# Altium integrated library ALTIUM-SMSI_SMT_STEEL_SPACER_M3_THREAD_INTERNAL-rev19a.IntLib: 149 symbols (part 2 of 2)
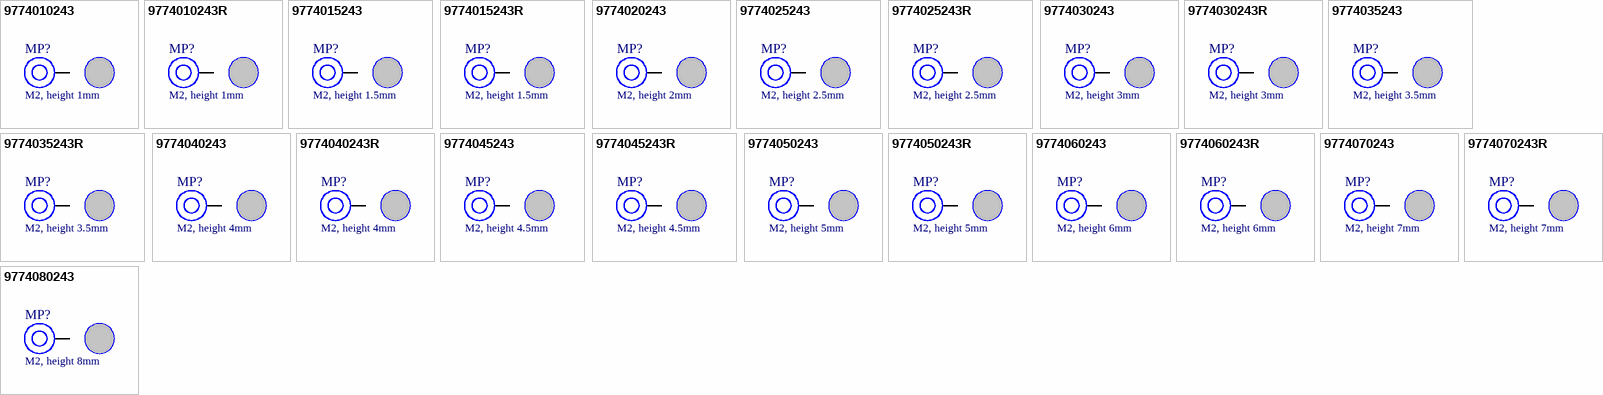
[diagram p6: symbols 9774010243 to 9774080243]

## 9774015243
designator MP?, comment M2, height 1.5mm
SMT Steel Spacer with internal Thread M2 WA-SMSI, height 1.5mm; Part Number: 9774015243; Tightening Torque: 0.2 Nm; Solder Cream Thickness: 150 um; Surface: Tin; ComponentLink1Description: Manufacturer; ComponentLink1URL: http://www.we-online.de; ComponentLink2Description: Datasheet; ComponentLink2URL: https://katalog.we-online.de/em/datasheet/9774015243.pdf; Published Date: November 2018; Publisher: Wurth Elektronik; Operating Temperature: -55 to 150 degC; Packaging: Bulk; Material: Steel; Mounting Technology: SMT; Height: 1.5 mm; Thread: M2
footprint 9774015243
pins: 1

## 9774015243R
designator MP?, comment M2, height 1.5mm
SMT Steel Spacer with internal Thread M2 WA-SMSI, height 1.5mm; Part Number: 9774015243R; Tightening Torque: 0.2 Nm; Solder Cream Thickness: 150 um; Surface: Tin; ComponentLink1Description: Manufacturer; ComponentLink1URL: http://www.we-online.de; ComponentLink2Description: Datasheet; ComponentLink2URL: https://katalog.we-online.de/em/datasheet/9774015243R.pdf; Published Date: November 2018; Publisher: Wurth Elektronik; Operating Temperature: -55 to 150 degC; Packaging: Tape and Reel; Material: Steel; Mounting Technology: SMT; Height: 1.5 mm; Thread: M2
footprint 9774015243
pins: 1

## 9774020243
designator MP?, comment M2, height 2mm
SMT Steel Spacer with internal Thread M2 WA-SMSI, height 2mm; Part Number: 9774020243; Tightening Torque: 0.2 Nm; Solder Cream Thickness: 150 um; Surface: Tin; ComponentLink1Description: Manufacturer; ComponentLink1URL: http://www.we-online.de; ComponentLink2Description: Datasheet; ComponentLink2URL: https://katalog.we-online.de/em/datasheet/9774020243.pdf; Published Date: November 2018; Publisher: Wurth Elektronik; Operating Temperature: -55 to 150 degC; Packaging: Bulk; Material: Steel; Mounting Technology: SMT; Height: 2 mm; Thread: M2
footprint 9774020243
pins: 1

## 9774025243
designator MP?, comment M2, height 2.5mm
SMT Steel Spacer with internal Thread M2 WA-SMSI, height 2.5mm; Part Number: 9774025243; Tightening Torque: 0.2 Nm; Solder Cream Thickness: 150 um; Surface: Tin; ComponentLink1Description: Manufacturer; ComponentLink1URL: http://www.we-online.de; ComponentLink2Description: Datasheet; ComponentLink2URL: https://katalog.we-online.de/em/datasheet/9774025243.pdf; Published Date: November 2018; Publisher: Wurth Elektronik; Operating Temperature: -55 to 150 degC; Packaging: Bulk; Material: Steel; Mounting Technology: SMT; Height: 2.5 mm; Thread: M2
footprint 9774025243
pins: 1

## 9774025243R
designator MP?, comment M2, height 2.5mm
SMT Steel Spacer with internal Thread M2 WA-SMSI, height 2.5mm; Part Number: 9774025243R; Tightening Torque: 0.2 Nm; Solder Cream Thickness: 150 um; Surface: Tin; ComponentLink1Description: Manufacturer; ComponentLink1URL: http://www.we-online.de; ComponentLink2Description: Datasheet; ComponentLink2URL: https://katalog.we-online.de/em/datasheet/9774025243R.pdf; Published Date: November 2018; Publisher: Wurth Elektronik; Operating Temperature: -55 to 150 degC; Packaging: Tape and Reel; Material: Steel; Mounting Technology: SMT; Height: 2.5 mm; Thread: M2
footprint 9774025243
pins: 1

## 9774030243
designator MP?, comment M2, height 3mm
SMT Steel Spacer with internal Thread M2 WA-SMSI, height 3mm; Part Number: 9774030243; Tightening Torque: 0.2 Nm; Solder Cream Thickness: 150 um; Surface: Tin; ComponentLink1Description: Manufacturer; ComponentLink1URL: http://www.we-online.de; ComponentLink2Description: Datasheet; ComponentLink2URL: https://katalog.we-online.de/em/datasheet/9774030243.pdf; Published Date: November 2018; Publisher: Wurth Elektronik; Operating Temperature: -55 to 150 degC; Packaging: Bulk; Material: Steel; Mounting Technology: SMT; Height: 3 mm; Thread: M2
footprint 9774030243
pins: 1

## 9774030243R
designator MP?, comment M2, height 3mm
SMT Steel Spacer with internal Thread M2 WA-SMSI, height 3mm; Part Number: 9774030243R; Tightening Torque: 0.2 Nm; Solder Cream Thickness: 150 um; Surface: Tin; ComponentLink1Description: Manufacturer; ComponentLink1URL: http://www.we-online.de; ComponentLink2Description: Datasheet; ComponentLink2URL: https://katalog.we-online.de/em/datasheet/9774030243R.pdf; Published Date: November 2018; Publisher: Wurth Elektronik; Operating Temperature: -55 to 150 degC; Packaging: Tape and Reel; Material: Steel; Mounting Technology: SMT; Height: 3 mm; Thread: M2
footprint 9774030243
pins: 1

## 9774035243
designator MP?, comment M2, height 3.5mm
SMT Steel Spacer with internal Thread M2 WA-SMSI, height 3.5mm; Part Number: 9774035243; Tightening Torque: 0.2 Nm; Solder Cream Thickness: 150 um; Surface: Tin; ComponentLink1Description: Manufacturer; ComponentLink1URL: http://www.we-online.de; ComponentLink2Description: Datasheet; ComponentLink2URL: https://katalog.we-online.de/em/datasheet/9774035243.pdf; Published Date: November 2018; Publisher: Wurth Elektronik; Operating Temperature: -55 to 150 degC; Packaging: Bulk; Material: Steel; Mounting Technology: SMT; Height: 3.5 mm; Thread: M2
footprint 9774035243
pins: 1

## 9774035243R
designator MP?, comment M2, height 3.5mm
SMT Steel Spacer with internal Thread M2 WA-SMSI, height 3.5mm; Part Number: 9774035243R; Tightening Torque: 0.2 Nm; Solder Cream Thickness: 150 um; Surface: Tin; ComponentLink1Description: Manufacturer; ComponentLink1URL: http://www.we-online.de; ComponentLink2Description: Datasheet; ComponentLink2URL: https://katalog.we-online.de/em/datasheet/9774035243R.pdf; Published Date: November 2018; Publisher: Wurth Elektronik; Operating Temperature: -55 to 150 degC; Packaging: Tape and Reel; Material: Steel; Mounting Technology: SMT; Height: 3.5 mm; Thread: M2
footprint 9774035243
pins: 1

## 9774040243
designator MP?, comment M2, height 4mm
SMT Steel Spacer with internal Thread M2 WA-SMSI, height 4mm; Part Number: 9774040243; Tightening Torque: 0.2 Nm; Solder Cream Thickness: 150 um; Surface: Tin; ComponentLink1Description: Manufacturer; ComponentLink1URL: http://www.we-online.de; ComponentLink2Description: Datasheet; ComponentLink2URL: https://katalog.we-online.de/em/datasheet/9774040243.pdf; Published Date: November 2018; Publisher: Wurth Elektronik; Operating Temperature: -55 to 150 degC; Packaging: Bulk; Material: Steel; Mounting Technology: SMT; Height: 4 mm; Thread: M2
footprint 9774040243
pins: 1

## 9774040243R
designator MP?, comment M2, height 4mm
SMT Steel Spacer with internal Thread M2 WA-SMSI, height 4mm; Part Number: 9774040243R; Tightening Torque: 0.2 Nm; Solder Cream Thickness: 150 um; Surface: Tin; ComponentLink1Description: Manufacturer; ComponentLink1URL: http://www.we-online.de; ComponentLink2Description: Datasheet; ComponentLink2URL: https://katalog.we-online.de/em/datasheet/9774040243R.pdf; Published Date: November 2018; Publisher: Wurth Elektronik; Operating Temperature: -55 to 150 degC; Packaging: Tape and Reel; Material: Steel; Mounting Technology: SMT; Height: 4 mm; Thread: M2
footprint 9774040243
pins: 1

## 9774045243
designator MP?, comment M2, height 4.5mm
SMT Steel Spacer with internal Thread M2 WA-SMSI, height 4.5mm; Part Number: 9774045243; Tightening Torque: 0.2 Nm; Solder Cream Thickness: 150 um; Surface: Tin; ComponentLink1Description: Manufacturer; ComponentLink1URL: http://www.we-online.de; ComponentLink2Description: Datasheet; ComponentLink2URL: https://katalog.we-online.de/em/datasheet/9774045243.pdf; Published Date: November 2018; Publisher: Wurth Elektronik; Operating Temperature: -55 to 150 degC; Packaging: Bulk; Material: Steel; Mounting Technology: SMT; Height: 4.5 mm; Thread: M2
footprint 9774045243
pins: 1

## 9774045243R
designator MP?, comment M2, height 4.5mm
SMT Steel Spacer with internal Thread M2 WA-SMSI, height 4.5mm; Part Number: 9774045243R; Tightening Torque: 0.2 Nm; Solder Cream Thickness: 150 um; Surface: Tin; ComponentLink1Description: Manufacturer; ComponentLink1URL: http://www.we-online.de; ComponentLink2Description: Datasheet; ComponentLink2URL: https://katalog.we-online.de/em/datasheet/9774045243R.pdf; Published Date: November 2018; Publisher: Wurth Elektronik; Operating Temperature: -55 to 150 degC; Packaging: Tape and Reel; Material: Steel; Mounting Technology: SMT; Height: 4.5 mm; Thread: M2
footprint 9774045243
pins: 1

## 9774050243
designator MP?, comment M2, height 5mm
SMT Steel Spacer with internal Thread M2 WA-SMSI, height 5mm; Part Number: 9774050243; Tightening Torque: 0.2 Nm; Solder Cream Thickness: 150 um; Surface: Tin; ComponentLink1Description: Manufacturer; ComponentLink1URL: http://www.we-online.de; ComponentLink2Description: Datasheet; ComponentLink2URL: https://katalog.we-online.de/em/datasheet/9774050243.pdf; Published Date: November 2018; Publisher: Wurth Elektronik; Operating Temperature: -55 to 150 degC; Packaging: Bulk; Material: Steel; Mounting Technology: SMT; Height: 5 mm; Thread: M2
footprint 9774050243
pins: 1

## 9774050243R
designator MP?, comment M2, height 5mm
SMT Steel Spacer with internal Thread M2 WA-SMSI, height 5mm; Part Number: 9774050243R; Tightening Torque: 0.2 Nm; Solder Cream Thickness: 150 um; Surface: Tin; ComponentLink1Description: Manufacturer; ComponentLink1URL: http://www.we-online.de; ComponentLink2Description: Datasheet; ComponentLink2URL: https://katalog.we-online.de/em/datasheet/9774050243R.pdf; Published Date: November 2018; Publisher: Wurth Elektronik; Operating Temperature: -55 to 150 degC; Packaging: Tape and Reel; Material: Steel; Mounting Technology: SMT; Height: 5 mm; Thread: M2
footprint 9774050243
pins: 1

## 9774060243
designator MP?, comment M2, height 6mm
SMT Steel Spacer with internal Thread M2 WA-SMSI, height 6mm; Part Number: 9774060243; Tightening Torque: 0.2 Nm; Solder Cream Thickness: 150 um; Surface: Tin; ComponentLink1Description: Manufacturer; ComponentLink1URL: http://www.we-online.de; ComponentLink2Description: Datasheet; ComponentLink2URL: https://katalog.we-online.de/em/datasheet/9774060243.pdf; Published Date: November 2018; Publisher: Wurth Elektronik; Operating Temperature: -55 to 150 degC; Packaging: Bulk; Material: Steel; Mounting Technology: SMT; Height: 6 mm; Thread: M2
footprint 9774060243
pins: 1

## 9774060243R
designator MP?, comment M2, height 6mm
SMT Steel Spacer with internal Thread M2 WA-SMSI, height 6mm; Part Number: 9774060243R; Tightening Torque: 0.2 Nm; Solder Cream Thickness: 150 um; Surface: Tin; ComponentLink1Description: Manufacturer; ComponentLink1URL: http://www.we-online.de; ComponentLink2Description: Datasheet; ComponentLink2URL: https://katalog.we-online.de/em/datasheet/9774060243R.pdf; Published Date: November 2018; Publisher: Wurth Elektronik; Operating Temperature: -55 to 150 degC; Packaging: Tape and Reel; Material: Steel; Mounting Technology: SMT; Height: 6 mm; Thread: M2
footprint 9774060243
pins: 1

## 9774070243
designator MP?, comment M2, height 7mm
SMT Steel Spacer with internal Thread M2 WA-SMSI, height 7mm; Part Number: 9774070243; Tightening Torque: 0.2 Nm; Solder Cream Thickness: 150 um; Surface: Tin; ComponentLink1Description: Manufacturer; ComponentLink1URL: http://www.we-online.de; ComponentLink2Description: Datasheet; ComponentLink2URL: https://katalog.we-online.de/em/datasheet/9774070243.pdf; Published Date: November 2018; Publisher: Wurth Elektronik; Operating Temperature: -55 to 150 degC; Packaging: Bulk; Material: Steel; Mounting Technology: SMT; Height: 7 mm; Thread: M2
footprint 9774070243
pins: 1

## 9774070243R
designator MP?, comment M2, height 7mm
SMT Steel Spacer with internal Thread M2 WA-SMSI, height 7mm; Part Number: 9774070243R; Tightening Torque: 0.2 Nm; Solder Cream Thickness: 150 um; Surface: Tin; ComponentLink1Description: Manufacturer; ComponentLink1URL: http://www.we-online.de; ComponentLink2Description: Datasheet; ComponentLink2URL: https://katalog.we-online.de/em/datasheet/9774070243R.pdf; Published Date: November 2018; Publisher: Wurth Elektronik; Operating Temperature: -55 to 150 degC; Packaging: Tape and Reel; Material: Steel; Mounting Technology: SMT; Height: 7 mm; Thread: M2
footprint 9774070243
pins: 1

## 9774080243
designator MP?, comment M2, height 8mm
SMT Steel Spacer with internal Thread M2 WA-SMSI, height 8mm; Part Number: 9774080243; Tightening Torque: 0.2 Nm; Solder Cream Thickness: 150 um; Surface: Tin; ComponentLink1Description: Manufacturer; ComponentLink1URL: http://www.we-online.de; ComponentLink2Description: Datasheet; ComponentLink2URL: https://katalog.we-online.de/em/datasheet/9774080243.pdf; Published Date: November 2018; Publisher: Wurth Elektronik; Operating Temperature: -55 to 150 degC; Packaging: Bulk; Material: Steel; Mounting Technology: SMT; Height: 8 mm; Thread: M2
footprint 9774080243
pins: 1


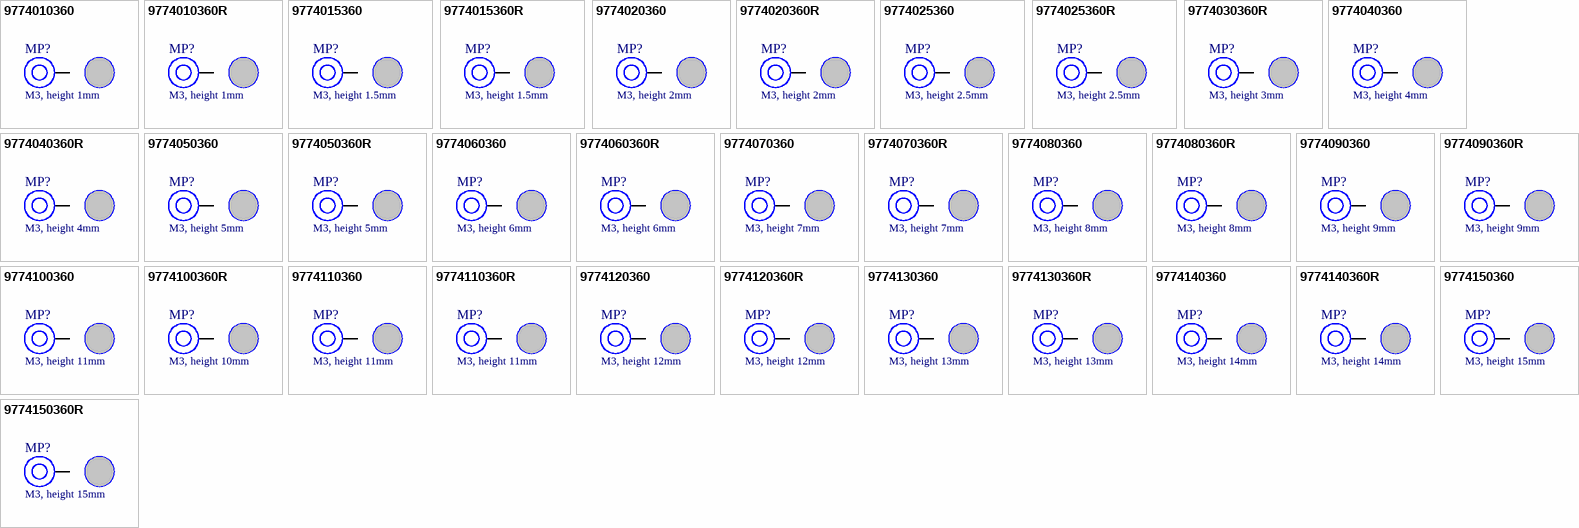
[diagram p4: symbols 9774010360 to 9774150360R]

## 9774010360
designator MP?, comment M3, height 1mm
SMT Steel Spacer with internal Thread M3 WA-SMSI, height 1mm; Part Number: 9774010360; Tightening Torque: 0.5 Nm; Solder Cream Thickness: 150 um; Surface: Tin; ComponentLink1Description: Manufacturer; ComponentLink1URL: http://www.we-online.de; ComponentLink2Description: Datasheet; ComponentLink2URL: https://katalog.we-online.de/em/datasheet/9774010360.pdf; Published Date: November 2018; Publisher: Wurth Elektronik; Operating Temperature: -55 to 150 degC; Packaging: Bulk; Material: Steel; Mounting Technology: SMT; Height: 1 mm; Thread: M3
footprint 9774010360
pins: 1

## 9774010360R
designator MP?, comment M3, height 1mm
SMT Steel Spacer with internal Thread M3 WA-SMSI, height 1mm; Part Number: 9774010360R; Tightening Torque: 0.5 Nm; Solder Cream Thickness: 150 um; Surface: Tin; ComponentLink1Description: Manufacturer; ComponentLink1URL: http://www.we-online.de; ComponentLink2Description: Datasheet; ComponentLink2URL: https://katalog.we-online.de/em/datasheet/9774010360R.pdf; Published Date: November 2018; Publisher: Wurth Elektronik; Operating Temperature: -55 to 150 degC; Packaging: Tape and Reel; Material: Steel; Mounting Technology: SMT; Height: 1 mm; Thread: M3
footprint 9774010360
pins: 1

## 9774015360
designator MP?, comment M3, height 1.5mm
SMT Steel Spacer with internal Thread M3 WA-SMSI, height 1.5mm; Part Number: 9774015360; Tightening Torque: 0.5 Nm; Solder Cream Thickness: 150 um; Surface: Tin; ComponentLink1Description: Manufacturer; ComponentLink1URL: http://www.we-online.de; ComponentLink2Description: Datasheet; ComponentLink2URL: https://katalog.we-online.de/em/datasheet/9774015360.pdf; Published Date: November 2018; Publisher: Wurth Elektronik; Operating Temperature: -55 to 150 degC; Packaging: Bulk; Material: Steel; Mounting Technology: SMT; Height: 1.5 mm; Thread: M3
footprint 9774015360
pins: 1

## 9774015360R
designator MP?, comment M3, height 1.5mm
SMT Steel Spacer with internal Thread M3 WA-SMSI, height 1.5mm; Part Number: 9774015360R; Tightening Torque: 0.5 Nm; Solder Cream Thickness: 150 um; Surface: Tin; ComponentLink1Description: Manufacturer; ComponentLink1URL: http://www.we-online.de; ComponentLink2Description: Datasheet; ComponentLink2URL: https://katalog.we-online.de/em/datasheet/9774015360R.pdf; Published Date: November 2018; Publisher: Wurth Elektronik; Operating Temperature: -55 to 150 degC; Packaging: Tape and Reel; Material: Steel; Mounting Technology: SMT; Height: 1.5 mm; Thread: M3
footprint 9774015360
pins: 1

## 9774020360
designator MP?, comment M3, height 2mm
SMT Steel Spacer with internal Thread M3 WA-SMSI, height 2mm; Part Number: 9774020360; Tightening Torque: 0.5 Nm; Solder Cream Thickness: 150 um; Surface: Tin; ComponentLink1Description: Manufacturer; ComponentLink1URL: http://www.we-online.de; ComponentLink2Description: Datasheet; ComponentLink2URL: https://katalog.we-online.de/em/datasheet/9774020360.pdf; Published Date: November 2018; Publisher: Wurth Elektronik; Operating Temperature: -55 to 150 degC; Packaging: Bulk; Material: Steel; Mounting Technology: SMT; Height: 2 mm; Thread: M3
footprint 9774020360
pins: 1

## 9774020360R
designator MP?, comment M3, height 2mm
SMT Steel Spacer with internal Thread M3 WA-SMSI, height 2mm; Part Number: 9774020360R; Tightening Torque: 0.5 Nm; Solder Cream Thickness: 150 um; Surface: Tin; ComponentLink1Description: Manufacturer; ComponentLink1URL: http://www.we-online.de; ComponentLink2Description: Datasheet; ComponentLink2URL: https://katalog.we-online.de/em/datasheet/9774020360R.pdf; Published Date: November 2018; Publisher: Wurth Elektronik; Operating Temperature: -55 to 150 degC; Packaging: Tape and Reel; Material: Steel; Mounting Technology: SMT; Height: 2 mm; Thread: M3
footprint 9774020360
pins: 1

## 9774025360
designator MP?, comment M3, height 2.5mm
SMT Steel Spacer with internal Thread M3 WA-SMSI, height 2.5mm; Part Number: 9774025360; Tightening Torque: 0.5 Nm; Solder Cream Thickness: 150 um; Surface: Tin; ComponentLink1Description: Manufacturer; ComponentLink1URL: http://www.we-online.de; ComponentLink2Description: Datasheet; ComponentLink2URL: https://katalog.we-online.de/em/datasheet/9774025360.pdf; Published Date: November 2018; Publisher: Wurth Elektronik; Operating Temperature: -55 to 150 degC; Packaging: Bulk; Material: Steel; Mounting Technology: SMT; Height: 2.5 mm; Thread: M3
footprint 9774025360
pins: 1

## 9774025360R
designator MP?, comment M3, height 2.5mm
SMT Steel Spacer with internal Thread M3 WA-SMSI, height 2.5mm; Part Number: 9774025360R; Tightening Torque: 0.5 Nm; Solder Cream Thickness: 150 um; Surface: Tin; ComponentLink1Description: Manufacturer; ComponentLink1URL: http://www.we-online.de; ComponentLink2Description: Datasheet; ComponentLink2URL: https://katalog.we-online.de/em/datasheet/9774025360R.pdf; Published Date: November 2018; Publisher: Wurth Elektronik; Operating Temperature: -55 to 150 degC; Packaging: Tape and Reel; Material: Steel; Mounting Technology: SMT; Height: 2.5 mm; Thread: M3
footprint 9774025360
pins: 1

## 9774030360R
designator MP?, comment M3, height 3mm
SMT Steel Spacer with internal Thread M3 WA-SMSI, height 3mm; Part Number: 9774030360R; Tightening Torque: 0.5 Nm; Solder Cream Thickness: 150 um; Surface: Tin; ComponentLink1Description: Manufacturer; ComponentLink1URL: http://www.we-online.de; ComponentLink2Description: Datasheet; ComponentLink2URL: https://katalog.we-online.de/em/datasheet/9774030360R.pdf; Published Date: November 2018; Publisher: Wurth Elektronik; Operating Temperature: -55 to 150 degC; Packaging: Tape and Reel; Material: Steel; Mounting Technology: SMT; Height: 3 mm; Thread: M3
footprint 9774030360
pins: 1

## 9774040360
designator MP?, comment M3, height 4mm
SMT Steel Spacer with internal Thread M3 WA-SMSI, height 4mm; Part Number: 9774040360; Tightening Torque: 0.5 Nm; Solder Cream Thickness: 150 um; Surface: Tin; ComponentLink1Description: Manufacturer; ComponentLink1URL: http://www.we-online.de; ComponentLink2Description: Datasheet; ComponentLink2URL: https://katalog.we-online.de/em/datasheet/9774040360.pdf; Published Date: November 2018; Publisher: Wurth Elektronik; Operating Temperature: -55 to 150 degC; Packaging: Bulk; Material: Steel; Mounting Technology: SMT; Height: 4 mm; Thread: M3
footprint 9774040360
pins: 1

## 9774040360R
designator MP?, comment M3, height 4mm
SMT Steel Spacer with internal Thread M3 WA-SMSI, height 4mm; Part Number: 9774040360R; Tightening Torque: 0.5 Nm; Solder Cream Thickness: 150 um; Surface: Tin; ComponentLink1Description: Manufacturer; ComponentLink1URL: http://www.we-online.de; ComponentLink2Description: Datasheet; ComponentLink2URL: https://katalog.we-online.de/em/datasheet/9774040360R.pdf; Published Date: November 2018; Publisher: Wurth Elektronik; Operating Temperature: -55 to 150 degC; Packaging: Tape and Reel; Material: Steel; Mounting Technology: SMT; Height: 4 mm; Thread: M3
footprint 9774040360
pins: 1

## 9774050360
designator MP?, comment M3, height 5mm
SMT Steel Spacer with internal Thread M3 WA-SMSI, height 5mm; Part Number: 9774050360; Tightening Torque: 0.5 Nm; Solder Cream Thickness: 150 um; Surface: Tin; ComponentLink1Description: Manufacturer; ComponentLink1URL: http://www.we-online.de; ComponentLink2Description: Datasheet; ComponentLink2URL: https://katalog.we-online.de/em/datasheet/9774050360.pdf; Published Date: November 2018; Publisher: Wurth Elektronik; Operating Temperature: -55 to 150 degC; Packaging: Bulk; Material: Steel; Mounting Technology: SMT; Height: 5 mm; Thread: M3
footprint 9774050360
pins: 1

## 9774050360R
designator MP?, comment M3, height 5mm
SMT Steel Spacer with internal Thread M3 WA-SMSI, height 5mm; Part Number: 9774050360R; Tightening Torque: 0.5 Nm; Solder Cream Thickness: 150 um; Surface: Tin; ComponentLink1Description: Manufacturer; ComponentLink1URL: http://www.we-online.de; ComponentLink2Description: Datasheet; ComponentLink2URL: https://katalog.we-online.de/em/datasheet/9774050360R.pdf; Published Date: November 2018; Publisher: Wurth Elektronik; Operating Temperature: -55 to 150 degC; Packaging: Tape and Reel; Material: Steel; Mounting Technology: SMT; Height: 5 mm; Thread: M3
footprint 9774050360
pins: 1

## 9774060360
designator MP?, comment M3, height 6mm
SMT Steel Spacer with internal Thread M3 WA-SMSI, height 6mm; Part Number: 9774060360; Tightening Torque: 0.5 Nm; Solder Cream Thickness: 150 um; Surface: Tin; ComponentLink1Description: Manufacturer; ComponentLink1URL: http://www.we-online.de; ComponentLink2Description: Datasheet; ComponentLink2URL: https://katalog.we-online.de/em/datasheet/9774060360.pdf; Published Date: November 2018; Publisher: Wurth Elektronik; Operating Temperature: -55 to 150 degC; Packaging: Bulk; Material: Steel; Mounting Technology: SMT; Height: 6 mm; Thread: M3
footprint 9774060360
pins: 1

## 9774060360R
designator MP?, comment M3, height 6mm
SMT Steel Spacer with internal Thread M3 WA-SMSI, height 6mm; Part Number: 9774060360R; Tightening Torque: 0.5 Nm; Solder Cream Thickness: 150 um; Surface: Tin; ComponentLink1Description: Manufacturer; ComponentLink1URL: http://www.we-online.de; ComponentLink2Description: Datasheet; ComponentLink2URL: https://katalog.we-online.de/em/datasheet/9774060360R.pdf; Published Date: November 2018; Publisher: Wurth Elektronik; Operating Temperature: -55 to 150 degC; Packaging: Tape and Reel; Material: Steel; Mounting Technology: SMT; Height: 6 mm; Thread: M3
footprint 9774060360
pins: 1

## 9774070360
designator MP?, comment M3, height 7mm
SMT Steel Spacer with internal Thread M3 WA-SMSI, height 7mm; Part Number: 9774070360; Tightening Torque: 0.5 Nm; Solder Cream Thickness: 150 um; Surface: Tin; ComponentLink1Description: Manufacturer; ComponentLink1URL: http://www.we-online.de; ComponentLink2Description: Datasheet; ComponentLink2URL: https://katalog.we-online.de/em/datasheet/9774070360.pdf; Published Date: November 2018; Publisher: Wurth Elektronik; Operating Temperature: -55 to 150 degC; Packaging: Bulk; Material: Steel; Mounting Technology: SMT; Height: 7 mm; Thread: M3
footprint 9774070360
pins: 1

## 9774070360R
designator MP?, comment M3, height 7mm
SMT Steel Spacer with internal Thread M3 WA-SMSI, height 7mm; Part Number: 9774070360R; Tightening Torque: 0.5 Nm; Solder Cream Thickness: 150 um; Surface: Tin; ComponentLink1Description: Manufacturer; ComponentLink1URL: http://www.we-online.de; ComponentLink2Description: Datasheet; ComponentLink2URL: https://katalog.we-online.de/em/datasheet/9774070360R.pdf; Published Date: November 2018; Publisher: Wurth Elektronik; Operating Temperature: -55 to 150 degC; Packaging: Tape and Reel; Material: Steel; Mounting Technology: SMT; Height: 7 mm; Thread: M3
footprint 9774070360
pins: 1

## 9774080360
designator MP?, comment M3, height 8mm
SMT Steel Spacer with internal Thread M3 WA-SMSI, height 8mm; Part Number: 9774080360; Tightening Torque: 0.5 Nm; Solder Cream Thickness: 150 um; Surface: Tin; ComponentLink1Description: Manufacturer; ComponentLink1URL: http://www.we-online.de; ComponentLink2Description: Datasheet; ComponentLink2URL: https://katalog.we-online.de/em/datasheet/9774080360.pdf; Published Date: November 2018; Publisher: Wurth Elektronik; Operating Temperature: -55 to 150 degC; Packaging: Bulk; Material: Steel; Mounting Technology: SMT; Height: 8 mm; Thread: M3
footprint 9774080360
pins: 1

## 9774080360R
designator MP?, comment M3, height 8mm
SMT Steel Spacer with internal Thread M3 WA-SMSI, height 8mm; Part Number: 9774080360R; Tightening Torque: 0.5 Nm; Solder Cream Thickness: 150 um; Surface: Tin; ComponentLink1Description: Manufacturer; ComponentLink1URL: http://www.we-online.de; ComponentLink2Description: Datasheet; ComponentLink2URL: https://katalog.we-online.de/em/datasheet/9774080360R.pdf; Published Date: November 2018; Publisher: Wurth Elektronik; Operating Temperature: -55 to 150 degC; Packaging: Tape and Reel; Material: Steel; Mounting Technology: SMT; Height: 8 mm; Thread: M3
footprint 9774080360
pins: 1

## 9774090360
designator MP?, comment M3, height 9mm
SMT Steel Spacer with internal Thread M3 WA-SMSI, height 9mm; Part Number: 9774090360; Tightening Torque: 0.5 Nm; Solder Cream Thickness: 150 um; Surface: Tin; ComponentLink1Description: Manufacturer; ComponentLink1URL: http://www.we-online.de; ComponentLink2Description: Datasheet; ComponentLink2URL: https://katalog.we-online.de/em/datasheet/9774090360.pdf; Published Date: November 2018; Publisher: Wurth Elektronik; Operating Temperature: -55 to 150 degC; Packaging: Bulk; Material: Steel; Mounting Technology: SMT; Height: 9 mm; Thread: M3
footprint 9774090360
pins: 1

## 9774090360R
designator MP?, comment M3, height 9mm
SMT Steel Spacer with internal Thread M3 WA-SMSI, height 9mm; Part Number: 9774090360R; Tightening Torque: 0.5 Nm; Solder Cream Thickness: 150 um; Surface: Tin; ComponentLink1Description: Manufacturer; ComponentLink1URL: http://www.we-online.de; ComponentLink2Description: Datasheet; ComponentLink2URL: https://katalog.we-online.de/em/datasheet/9774090360R.pdf; Published Date: November 2018; Publisher: Wurth Elektronik; Operating Temperature: -55 to 150 degC; Packaging: Tape and Reel; Material: Steel; Mounting Technology: SMT; Height: 9 mm; Thread: M3
footprint 9774090360
pins: 1

## 9774100360
designator MP?, comment M3, height 11mm
SMT Steel Spacer with internal Thread M3 WA-SMSI, height 10mm; Part Number: 9774110360R; Tightening Torque: 0.5 Nm; Solder Cream Thickness: 150 um; Surface: Tin; ComponentLink1Description: Manufacturer; ComponentLink1URL: http://www.we-online.de; ComponentLink2Description: Datasheet; ComponentLink2URL: https://katalog.we-online.de/em/datasheet/9774110360R.pdf; Published Date: November 2018; Publisher: Wurth Elektronik; Operating Temperature: -55 to 150 degC; Packaging: Tape and Reel; Material: Steel; Mounting Technology: SMT; Height: 11 mm; Thread: M3
footprint 9774100360
pins: 1

## 9774100360R
designator MP?, comment M3, height 10mm
SMT Steel Spacer with internal Thread M3 WA-SMSI, height 10mm; Part Number: 9774100360R; Tightening Torque: 0.5 Nm; Solder Cream Thickness: 150 um; Surface: Tin; ComponentLink1Description: Manufacturer; ComponentLink1URL: http://www.we-online.de; ComponentLink2Description: Datasheet; ComponentLink2URL: https://katalog.we-online.de/em/datasheet/9774100360R.pdf; Published Date: November 2018; Publisher: Wurth Elektronik; Operating Temperature: -55 to 150 degC; Packaging: Tape and Reel; Material: Steel; Mounting Technology: SMT; Height: 10 mm; Thread: M3
footprint 9774100360
pins: 1

## 9774110360
designator MP?, comment M3, height 11mm
SMT Steel Spacer with internal Thread M3 WA-SMSI, height 11mm; Part Number: 9774110360; Tightening Torque: 0.5 Nm; Solder Cream Thickness: 150 um; Surface: Tin; ComponentLink1Description: Manufacturer; ComponentLink1URL: http://www.we-online.de; ComponentLink2Description: Datasheet; ComponentLink2URL: https://katalog.we-online.de/em/datasheet/9774110360.pdf; Published Date: November 2018; Publisher: Wurth Elektronik; Operating Temperature: -55 to 150 degC; Packaging: Bulk; Material: Steel; Mounting Technology: SMT; Height: 11 mm; Thread: M3
footprint 9774110360
pins: 1

## 9774110360R
designator MP?, comment M3, height 11mm
SMT Steel Spacer with internal Thread M3 WA-SMSI, height 11mm; Part Number: 9774110360R; Tightening Torque: 0.5 Nm; Solder Cream Thickness: 150 um; Surface: Tin; ComponentLink1Description: Manufacturer; ComponentLink1URL: http://www.we-online.de; ComponentLink2Description: Datasheet; ComponentLink2URL: https://katalog.we-online.de/em/datasheet/9774110360R.pdf; Published Date: November 2018; Publisher: Wurth Elektronik; Operating Temperature: -55 to 150 degC; Packaging: Tape and Reel; Material: Steel; Mounting Technology: SMT; Height: 11 mm; Thread: M3
footprint 9774110360
pins: 1

## 9774120360
designator MP?, comment M3, height 12mm
SMT Steel Spacer with internal Thread M3 WA-SMSI, height 12mm; Part Number: 9774120360; Tightening Torque: 0.5 Nm; Solder Cream Thickness: 150 um; Surface: Tin; ComponentLink1Description: Manufacturer; ComponentLink1URL: http://www.we-online.de; ComponentLink2Description: Datasheet; ComponentLink2URL: https://katalog.we-online.de/em/datasheet/9774120360.pdf; Published Date: November 2018; Publisher: Wurth Elektronik; Operating Temperature: -55 to 150 degC; Packaging: Bulk; Material: Steel; Mounting Technology: SMT; Height: 12 mm; Thread: M3
footprint 9774120360
pins: 1

## 9774120360R
designator MP?, comment M3, height 12mm
SMT Steel Spacer with internal Thread M3 WA-SMSI, height 12mm; Part Number: 9774120360R; Tightening Torque: 0.5 Nm; Solder Cream Thickness: 150 um; Surface: Tin; ComponentLink1Description: Manufacturer; ComponentLink1URL: http://www.we-online.de; ComponentLink2Description: Datasheet; ComponentLink2URL: https://katalog.we-online.de/em/datasheet/9774120360R.pdf; Published Date: November 2018; Publisher: Wurth Elektronik; Operating Temperature: -55 to 150 degC; Packaging: Tape and Reel; Material: Steel; Mounting Technology: SMT; Height: 12 mm; Thread: M3
footprint 9774120360
pins: 1

## 9774130360
designator MP?, comment M3, height 13mm
SMT Steel Spacer with internal Thread M3 WA-SMSI, height 13mm; Part Number: 9774130360; Tightening Torque: 0.5 Nm; Solder Cream Thickness: 150 um; Surface: Tin; ComponentLink1Description: Manufacturer; ComponentLink1URL: http://www.we-online.de; ComponentLink2Description: Datasheet; ComponentLink2URL: https://katalog.we-online.de/em/datasheet/9774130360.pdf; Published Date: November 2018; Publisher: Wurth Elektronik; Operating Temperature: -55 to 150 degC; Packaging: Bulk; Material: Steel; Mounting Technology: SMT; Height: 13 mm; Thread: M3
footprint 9774130360
pins: 1

## 9774130360R
designator MP?, comment M3, height 13mm
SMT Steel Spacer with internal Thread M3 WA-SMSI, height 13mm; Part Number: 9774130360R; Tightening Torque: 0.5 Nm; Solder Cream Thickness: 150 um; Surface: Tin; ComponentLink1Description: Manufacturer; ComponentLink1URL: http://www.we-online.de; ComponentLink2Description: Datasheet; ComponentLink2URL: https://katalog.we-online.de/em/datasheet/9774130360R.pdf; Published Date: November 2018; Publisher: Wurth Elektronik; Operating Temperature: -55 to 150 degC; Packaging: Tape and Reel; Material: Steel; Mounting Technology: SMT; Height: 13 mm; Thread: M3
footprint 9774130360
pins: 1

## 9774140360
designator MP?, comment M3, height 14mm
SMT Steel Spacer with internal Thread M3 WA-SMSI, height 14mm; Part Number: 9774140360; Tightening Torque: 0.5 Nm; Solder Cream Thickness: 150 um; Surface: Tin; ComponentLink1Description: Manufacturer; ComponentLink1URL: http://www.we-online.de; ComponentLink2Description: Datasheet; ComponentLink2URL: https://katalog.we-online.de/em/datasheet/9774140360.pdf; Published Date: November 2018; Publisher: Wurth Elektronik; Operating Temperature: -55 to 150 degC; Packaging: Bulk; Material: Steel; Mounting Technology: SMT; Height: 14 mm; Thread: M3
footprint 9774140360
pins: 1

## 9774140360R
designator MP?, comment M3, height 14mm
SMT Steel Spacer with internal Thread M3 WA-SMSI, height 14mm; Part Number: 9774140360R; Tightening Torque: 0.5 Nm; Solder Cream Thickness: 150 um; Surface: Tin; ComponentLink1Description: Manufacturer; ComponentLink1URL: http://www.we-online.de; ComponentLink2Description: Datasheet; ComponentLink2URL: https://katalog.we-online.de/em/datasheet/9774140360R.pdf; Published Date: November 2018; Publisher: Wurth Elektronik; Operating Temperature: -55 to 150 degC; Packaging: Tape and Reel; Material: Steel; Mounting Technology: SMT; Height: 14 mm; Thread: M3
footprint 9774140360
pins: 1

## 9774150360
designator MP?, comment M3, height 15mm
SMT Steel Spacer with internal Thread M3 WA-SMSI, height 15mm; Part Number: 9774150360; Tightening Torque: 0.5 Nm; Solder Cream Thickness: 150 um; Surface: Tin; ComponentLink1Description: Manufacturer; ComponentLink1URL: http://www.we-online.de; ComponentLink2Description: Datasheet; ComponentLink2URL: https://katalog.we-online.de/em/datasheet/9774150360.pdf; Published Date: November 2018; Publisher: Wurth Elektronik; Operating Temperature: -55 to 150 degC; Packaging: Bulk; Material: Steel; Mounting Technology: SMT; Height: 15 mm; Thread: M3
footprint 9774150360
pins: 1

## 9774150360R
designator MP?, comment M3, height 15mm
SMT Steel Spacer with internal Thread M3 WA-SMSI, height 15mm; Part Number: 9774150360R; Tightening Torque: 0.5 Nm; Solder Cream Thickness: 150 um; Surface: Tin; ComponentLink1Description: Manufacturer; ComponentLink1URL: http://www.we-online.de; ComponentLink2Description: Datasheet; ComponentLink2URL: https://katalog.we-online.de/em/datasheet/9774150360R.pdf; Published Date: November 2018; Publisher: Wurth Elektronik; Operating Temperature: -55 to 150 degC; Packaging: Tape and Reel; Material: Steel; Mounting Technology: SMT; Height: 15 mm; Thread: M3
footprint 9774150360
pins: 1


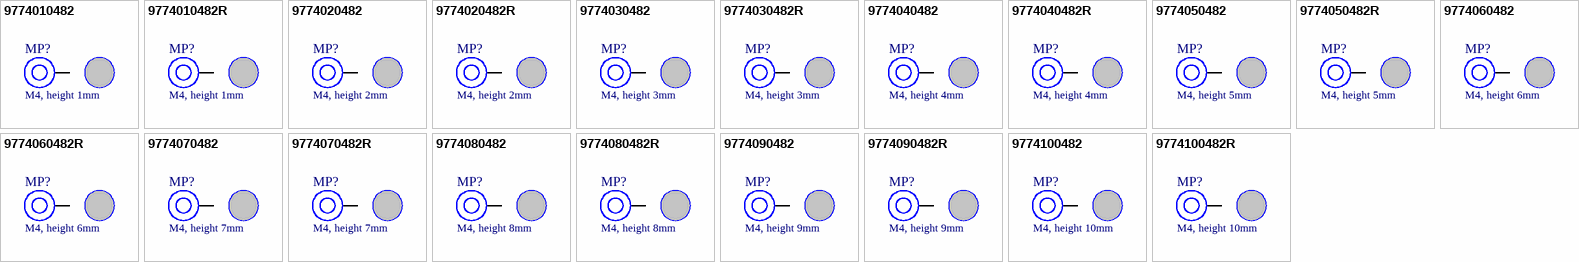
[diagram p5: symbols 9774010482 to 9774100482R]

## 9774010482
designator MP?, comment M4, height 1mm
SMT Steel Spacer with internal Thread M4 WA-SMSI, height 1mm; Part Number: 9774010482; Tightening Torque: 1.2 Nm; Solder Cream Thickness: 150 um; Surface: Tin; ComponentLink1Description: Manufacturer; ComponentLink1URL: http://www.we-online.de; ComponentLink2Description: Datasheet; ComponentLink2URL: https://katalog.we-online.de/em/datasheet/9774010482.pdf; Published Date: November 2018; Publisher: Wurth Elektronik; Operating Temperature: -55 to 150 degC; Packaging: Bulk; Material: Steel; Mounting Technology: SMT; Height: 1 mm; Thread: M4
footprint 9774010482
pins: 1

## 9774010482R
designator MP?, comment M4, height 1mm
SMT Steel Spacer with internal Thread M4 WA-SMSI, height 1mm; Part Number: 9774010482R; Tightening Torque: 1.2 Nm; Solder Cream Thickness: 150 um; Surface: Tin; ComponentLink1Description: Manufacturer; ComponentLink1URL: http://www.we-online.de; ComponentLink2Description: Datasheet; ComponentLink2URL: https://katalog.we-online.de/em/datasheet/9774010482R.pdf; Published Date: November 2018; Publisher: Wurth Elektronik; Operating Temperature: -55 to 150 degC; Packaging: Tape and Reel; Material: Steel; Mounting Technology: SMT; Height: 1 mm; Thread: M4
footprint 9774010482
pins: 1

## 9774020482
designator MP?, comment M4, height 2mm
SMT Steel Spacer with internal Thread M4 WA-SMSI, height 2mm; Part Number: 9774020482; Tightening Torque: 1.2 Nm; Solder Cream Thickness: 150 um; Surface: Tin; ComponentLink1Description: Manufacturer; ComponentLink1URL: http://www.we-online.de; ComponentLink2Description: Datasheet; ComponentLink2URL: https://katalog.we-online.de/em/datasheet/9774020482.pdf; Published Date: November 2018; Publisher: Wurth Elektronik; Operating Temperature: -55 to 150 degC; Packaging: Bulk; Material: Steel; Mounting Technology: SMT; Height: 2 mm; Thread: M4
footprint 9774020482
pins: 1

## 9774020482R
designator MP?, comment M4, height 2mm
SMT Steel Spacer with internal Thread M4 WA-SMSI, height 2mm; Part Number: 9774020482R; Tightening Torque: 1.2 Nm; Solder Cream Thickness: 150 um; Surface: Tin; ComponentLink1Description: Manufacturer; ComponentLink1URL: http://www.we-online.de; ComponentLink2Description: Datasheet; ComponentLink2URL: https://katalog.we-online.de/em/datasheet/9774020482R.pdf; Published Date: November 2018; Publisher: Wurth Elektronik; Operating Temperature: -55 to 150 degC; Packaging: Tape and Reel; Material: Steel; Mounting Technology: SMT; Height: 2 mm; Thread: M4
footprint 9774020482
pins: 1

## 9774030482
designator MP?, comment M4, height 3mm
SMT Steel Spacer with internal Thread M4 WA-SMSI, height 3mm; Part Number: 9774030482; Tightening Torque: 1.2 Nm; Solder Cream Thickness: 150 um; Surface: Tin; ComponentLink1Description: Manufacturer; ComponentLink1URL: http://www.we-online.de; ComponentLink2Description: Datasheet; ComponentLink2URL: https://katalog.we-online.de/em/datasheet/9774030482.pdf; Published Date: November 2018; Publisher: Wurth Elektronik; Operating Temperature: -55 to 150 degC; Packaging: Bulk; Material: Steel; Mounting Technology: SMT; Height: 3 mm; Thread: M4
footprint 9774030482
pins: 1

## 9774030482R
designator MP?, comment M4, height 3mm
SMT Steel Spacer with internal Thread M4 WA-SMSI, height 3mm; Part Number: 9774030482R; Tightening Torque: 1.2 Nm; Solder Cream Thickness: 150 um; Surface: Tin; ComponentLink1Description: Manufacturer; ComponentLink1URL: http://www.we-online.de; ComponentLink2Description: Datasheet; ComponentLink2URL: https://katalog.we-online.de/em/datasheet/9774030482R.pdf; Published Date: November 2018; Publisher: Wurth Elektronik; Operating Temperature: -55 to 150 degC; Packaging: Tape and Reel; Material: Steel; Mounting Technology: SMT; Height: 3 mm; Thread: M4
footprint 9774030482
pins: 1

## 9774040482
designator MP?, comment M4, height 4mm
SMT Steel Spacer with internal Thread M4 WA-SMSI, height 4mm; Part Number: 9774040482; Tightening Torque: 1.2 Nm; Solder Cream Thickness: 150 um; Surface: Tin; ComponentLink1Description: Manufacturer; ComponentLink1URL: http://www.we-online.de; ComponentLink2Description: Datasheet; ComponentLink2URL: https://katalog.we-online.de/em/datasheet/9774040482.pdf; Published Date: November 2018; Publisher: Wurth Elektronik; Operating Temperature: -55 to 150 degC; Packaging: Bulk; Material: Steel; Mounting Technology: SMT; Height: 4 mm; Thread: M4
footprint 9774040482
pins: 1

## 9774040482R
designator MP?, comment M4, height 4mm
SMT Steel Spacer with internal Thread M4 WA-SMSI, height 4mm; Part Number: 9774040482R; Tightening Torque: 1.2 Nm; Solder Cream Thickness: 150 um; Surface: Tin; ComponentLink1Description: Manufacturer; ComponentLink1URL: http://www.we-online.de; ComponentLink2Description: Datasheet; ComponentLink2URL: https://katalog.we-online.de/em/datasheet/9774040482R.pdf; Published Date: November 2018; Publisher: Wurth Elektronik; Operating Temperature: -55 to 150 degC; Packaging: Tape and Reel; Material: Steel; Mounting Technology: SMT; Height: 4 mm; Thread: M4
footprint 9774040482
pins: 1

## 9774050482
designator MP?, comment M4, height 5mm
SMT Steel Spacer with internal Thread M4 WA-SMSI, height 5mm; Part Number: 9774050482; Tightening Torque: 1.2 Nm; Solder Cream Thickness: 150 um; Surface: Tin; ComponentLink1Description: Manufacturer; ComponentLink1URL: http://www.we-online.de; ComponentLink2Description: Datasheet; ComponentLink2URL: https://katalog.we-online.de/em/datasheet/9774050482.pdf; Published Date: November 2018; Publisher: Wurth Elektronik; Operating Temperature: -55 to 150 degC; Packaging: Bulk; Material: Steel; Mounting Technology: SMT; Height: 5 mm; Thread: M4
footprint 9774050482
pins: 1

## 9774050482R
designator MP?, comment M4, height 5mm
SMT Steel Spacer with internal Thread M4 WA-SMSI, height 5mm; Part Number: 9774050482R; Tightening Torque: 1.2 Nm; Solder Cream Thickness: 150 um; Surface: Tin; ComponentLink1Description: Manufacturer; ComponentLink1URL: http://www.we-online.de; ComponentLink2Description: Datasheet; ComponentLink2URL: https://katalog.we-online.de/em/datasheet/9774050482R.pdf; Published Date: November 2018; Publisher: Wurth Elektronik; Operating Temperature: -55 to 150 degC; Packaging: Tape and Reel; Material: Steel; Mounting Technology: SMT; Height: 5 mm; Thread: M4
footprint 9774050482
pins: 1

## 9774060482
designator MP?, comment M4, height 6mm
SMT Steel Spacer with internal Thread M4 WA-SMSI, height 6mm; Part Number: 9774060482; Tightening Torque: 1.2 Nm; Solder Cream Thickness: 150 um; Surface: Tin; ComponentLink1Description: Manufacturer; ComponentLink1URL: http://www.we-online.de; ComponentLink2Description: Datasheet; ComponentLink2URL: https://katalog.we-online.de/em/datasheet/9774060482.pdf; Published Date: November 2018; Publisher: Wurth Elektronik; Operating Temperature: -55 to 150 degC; Packaging: Bulk; Material: Steel; Mounting Technology: SMT; Height: 6 mm; Thread: M4
footprint 9774060482
pins: 1

## 9774060482R
designator MP?, comment M4, height 6mm
SMT Steel Spacer with internal Thread M4 WA-SMSI, height 6mm; Part Number: 9774060482R; Tightening Torque: 1.2 Nm; Solder Cream Thickness: 150 um; Surface: Tin; ComponentLink1Description: Manufacturer; ComponentLink1URL: http://www.we-online.de; ComponentLink2Description: Datasheet; ComponentLink2URL: https://katalog.we-online.de/em/datasheet/9774060482R.pdf; Published Date: November 2018; Publisher: Wurth Elektronik; Operating Temperature: -55 to 150 degC; Packaging: Tape and Reel; Material: Steel; Mounting Technology: SMT; Height: 6 mm; Thread: M4
footprint 9774060482
pins: 1

## 9774070482
designator MP?, comment M4, height 7mm
SMT Steel Spacer with internal Thread M4 WA-SMSI, height 7mm; Part Number: 9774070482; Tightening Torque: 1.2 Nm; Solder Cream Thickness: 150 um; Surface: Tin; ComponentLink1Description: Manufacturer; ComponentLink1URL: http://www.we-online.de; ComponentLink2Description: Datasheet; ComponentLink2URL: https://katalog.we-online.de/em/datasheet/9774070482.pdf; Published Date: November 2018; Publisher: Wurth Elektronik; Operating Temperature: -55 to 150 degC; Packaging: Bulk; Material: Steel; Mounting Technology: SMT; Height: 7 mm; Thread: M4
footprint 9774070482
pins: 1

## 9774070482R
designator MP?, comment M4, height 7mm
SMT Steel Spacer with internal Thread M4 WA-SMSI, height 7mm; Part Number: 9774070482R; Tightening Torque: 1.2 Nm; Solder Cream Thickness: 150 um; Surface: Tin; ComponentLink1Description: Manufacturer; ComponentLink1URL: http://www.we-online.de; ComponentLink2Description: Datasheet; ComponentLink2URL: https://katalog.we-online.de/em/datasheet/9774070482R.pdf; Published Date: November 2018; Publisher: Wurth Elektronik; Operating Temperature: -55 to 150 degC; Packaging: Tape and Reel; Material: Steel; Mounting Technology: SMT; Height: 7 mm; Thread: M4
footprint 9774070482
pins: 1

## 9774080482
designator MP?, comment M4, height 8mm
SMT Steel Spacer with internal Thread M4 WA-SMSI, height 8mm; Part Number: 9774080482; Tightening Torque: 1.2 Nm; Solder Cream Thickness: 150 um; Surface: Tin; ComponentLink1Description: Manufacturer; ComponentLink1URL: http://www.we-online.de; ComponentLink2Description: Datasheet; ComponentLink2URL: https://katalog.we-online.de/em/datasheet/9774080482.pdf; Published Date: November 2018; Publisher: Wurth Elektronik; Operating Temperature: -55 to 150 degC; Packaging: Bulk; Material: Steel; Mounting Technology: SMT; Height: 8 mm; Thread: M4
footprint 9774080482
pins: 1

## 9774080482R
designator MP?, comment M4, height 8mm
SMT Steel Spacer with internal Thread M4 WA-SMSI, height 8mm; Part Number: 9774080482R; Tightening Torque: 1.2 Nm; Solder Cream Thickness: 150 um; Surface: Tin; ComponentLink1Description: Manufacturer; ComponentLink1URL: http://www.we-online.de; ComponentLink2Description: Datasheet; ComponentLink2URL: https://katalog.we-online.de/em/datasheet/9774080482R.pdf; Published Date: November 2018; Publisher: Wurth Elektronik; Operating Temperature: -55 to 150 degC; Packaging: Tape and Reel; Material: Steel; Mounting Technology: SMT; Height: 8 mm; Thread: M4
footprint 9774080482
pins: 1

## 9774090482
designator MP?, comment M4, height 9mm
SMT Steel Spacer with internal Thread M4 WA-SMSI, height 9mm; Part Number: 9774090482; Tightening Torque: 1.2 Nm; Solder Cream Thickness: 150 um; Surface: Tin; ComponentLink1Description: Manufacturer; ComponentLink1URL: http://www.we-online.de; ComponentLink2Description: Datasheet; ComponentLink2URL: https://katalog.we-online.de/em/datasheet/9774090482.pdf; Published Date: November 2018; Publisher: Wurth Elektronik; Operating Temperature: -55 to 150 degC; Packaging: Bulk; Material: Steel; Mounting Technology: SMT; Height: 9 mm; Thread: M4
footprint 9774090482
pins: 1

## 9774090482R
designator MP?, comment M4, height 9mm
SMT Steel Spacer with internal Thread M4 WA-SMSI, height 9mm; Part Number: 9774090482R; Tightening Torque: 1.2 Nm; Solder Cream Thickness: 150 um; Surface: Tin; ComponentLink1Description: Manufacturer; ComponentLink1URL: http://www.we-online.de; ComponentLink2Description: Datasheet; ComponentLink2URL: https://katalog.we-online.de/em/datasheet/9774090482R.pdf; Published Date: November 2018; Publisher: Wurth Elektronik; Operating Temperature: -55 to 150 degC; Packaging: Tape and Reel; Material: Steel; Mounting Technology: SMT; Height: 9 mm; Thread: M4
footprint 9774090482
pins: 1

## 9774100482
designator MP?, comment M4, height 10mm
SMT Steel Spacer with internal Thread M4 WA-SMSI, height 10mm; Part Number: 9774100482; Tightening Torque: 1.2 Nm; Solder Cream Thickness: 150 um; Surface: Tin; ComponentLink1Description: Manufacturer; ComponentLink1URL: http://www.we-online.de; ComponentLink2Description: Datasheet; ComponentLink2URL: https://katalog.we-online.de/em/datasheet/9774100482.pdf; Published Date: November 2018; Publisher: Wurth Elektronik; Operating Temperature: -55 to 150 degC; Packaging: Bulk; Material: Steel; Mounting Technology: SMT; Height: 10 mm; Thread: M4
footprint 9774100482
pins: 1

## 9774100482R
designator MP?, comment M4, height 10mm
SMT Steel Spacer with internal Thread M4 WA-SMSI, height 10mm; Part Number: 9774100482R; Tightening Torque: 1.2 Nm; Solder Cream Thickness: 150 um; Surface: Tin; ComponentLink1Description: Manufacturer; ComponentLink1URL: http://www.we-online.de; ComponentLink2Description: Datasheet; ComponentLink2URL: https://katalog.we-online.de/em/datasheet/9774100482R.pdf; Published Date: November 2018; Publisher: Wurth Elektronik; Operating Temperature: -55 to 150 degC; Packaging: Tape and Reel; Material: Steel; Mounting Technology: SMT; Height: 10 mm; Thread: M4
footprint 9774100482
pins: 1